# Altium footprint library D0805 - LOI.PcbLib: 1 footprints
Each footprint in its own frame and in the unit in brackets; x right, y up, seen from the top. Pads: shape width x height; smd on the part's side, far side on the other; paste and mask are expansions set on the pad; w line width, h text height; cw(c..) or ccw(c..) is an arc to the next point about the centre after c.
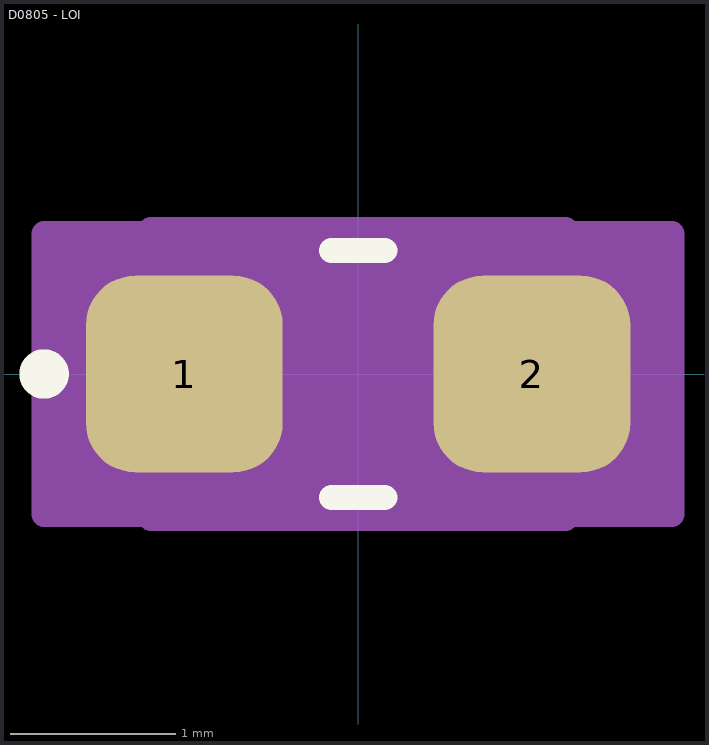
[diagram p0: the footprint, top view; thin cyan lines are the x and y axes]

## D0805 - LOI [mil]
pads (2):
  rrect50% 47x47 smd paste+0 mask+0: 1(-41.5,0) 2(41.5,0)
Top Overlay:
  circle w7.87: c-75,0 r1.97
  lines w6: -6.35,-29.5 6.35,-29.5 ; -6.35,29.5 6.35,29.5
Top 3D Body:
  lines w1: -39.5,-24.5 -39.5,24.5 39.5,24.5 39.5,-24.5 -39.5,-24.5
Top Courtyard:
  region: -49.5,-33.5 -75,-33.5 -75,33.5 -49.5,33.5 -49.5,34.5 49.5,34.5 49.5,33.5 75,33.5 75,-33.5 49.5,-33.5 49.5,-34.5 -49.5,-34.5
  lines w6: -75,-33.5 -75,33.5 -49.5,33.5 -49.5,34.5 49.5,34.5 49.5,33.5 75,33.5 75,-33.5 49.5,-33.5 49.5,-34.5 -49.5,-34.5 -49.5,-33.5 -75,-33.5
Top Designator (Mech29):
  text ".Designator" at 13.12,-196.79 h39.37
3D body "LED_LTST-C170GKT_LTO.step": height 42.99, standoff 0, extent -39.49,-24.61 39.49,24.61